# EAGLE library part BQ2409X (library Tari)
Single-cell Li-Ion charge controller. Up to 6.6V input, external 10k or 100k NTC thermistor for temperature sensing. Bottom pad should be connected to ground plane for thermal dissipation.
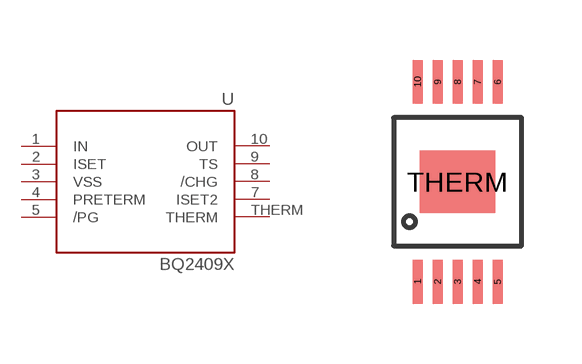
[diagram p2: symbol with the pads of DGQ-S-PDSO-G10; footprint DGQ-S-PDSO-G10]

Designator prefix U

## BQ2409X  [DGQ-S-PDSO-G10]
1  IN
2  ISET
3  VSS
4  PRETERM
5  /PG
7  ISET2
8  /CHG
9  TS
10  OUT
THERM  THERM

## Footprint DGQ-S-PDSO-G10 (pad centres in mm)
TI PowerPAD- 10-lead TSOP with thermal pad.
smd 0.25 x 1.1: 1 -1,-2.5; 2 -0.5,-2.5; 3 0,-2.5; 4 0.5,-2.5; 5 1,-2.5; 6 1,2.5; 7 0.5,2.5; 8 0,2.5; 9 -0.5,2.5; 10 -1,2.5
smd 1.88 x 1.57: THERM 0,0